# Altium schematic symbol library RKJXV122400R.SchLib: 1 symbol
Pins are listed as number, name and electrical type; pins without a type are passive.

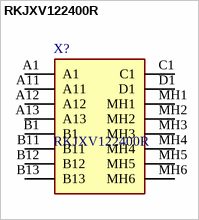
[diagram p0: symbol RKJXV122400R]

## RKJXV122400R
designator X?
Multi Control Devices Potentiometer Type ThumbPointer (Stick Controller) RKJXV Series; Manufacturer_Name: ALPS Electric; Geometry.Height: 18.95mm; Manufacturer_Part_Number: RKJXV122400R; Mouser Part Number: 688-RKJXV122400R; Mouser Price/Stock: https://www.mouser.co.uk/ProductDetail/Alps-Alpine/RKJXV122400R?qs=GedFDFLaBXEbB%252ByoOVwLBg%3D%3D; Arrow Part Number: *; Arrow Price/Stock: *; Datasheet Link: https://tech.alpsalpine.com/prod/e/html/multicontrol/potentiometer/rkjxk/rkjxv122400r.html
footprint RKJXV122400R
pins: A1, A11, A12, A13, B1, B11, B12, B13, C1, D1, MH1, MH2, MH3, MH4, MH5, MH6